# EAGLE library part FT232R (library MrSwirlyEyes)
FT32Rx USB -> Serial Devices [FTDI DEVICES]
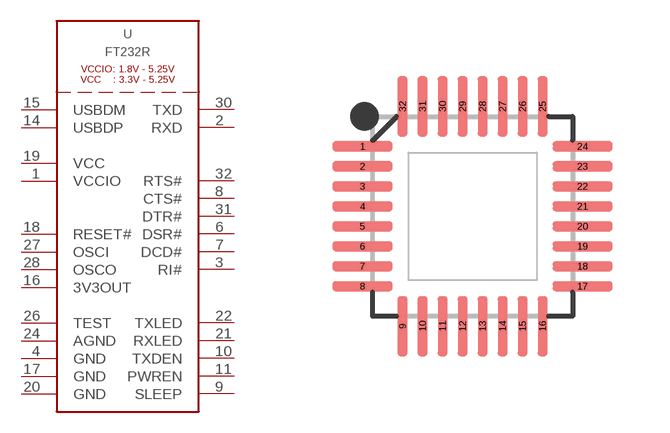
[diagram p16: symbol with the pads of FT232RQ; footprint FT232RQ]

Designator prefix U

## FT232RQ (CREATOR: Kenmei; DATASHEET: http://www.ftdichip.com/Support/Documents/DataSheets/ICs/DS_FT232R.pdf; DIST: Digikey; DISTLINK: https://www.digikey.com/product-detail/en/ftdi-future-technology-devices-international-ltd/FT232RQ-REEL/768-1008-1-ND/1836403; DISTPN: 768-1008-1-ND; MFR: FTDI, Future Technology Devices International Ltd; MPN: FT232RQ-REEL; TESTED: No; VALUE: FTDI)  [FT232RQ]
1  VCCIO
2  RXD
3  RI#
4  GND
6  DSR#
7  DCD#
8  CTS#
9  SLEEP
10  TXDEN
11  PWREN
14  USBDP
15  USBDM
16  3V3OUT
17  GND
18  RESET#
19  VCC
20  GND
21  RXLED
22  TXLED
24  AGND
26  TEST
27  OSCI
28  OSCO
30  TXD
31  DTR#
32  RTS#

## Footprint FT232RQ (pad centres in mm)
smd 1.5 x 0.25: 1 -2.75,1.75; 2 -2.75,1.25; 3 -2.75,0.75; 4 -2.75,0.25; 5 -2.75,-0.25; 6 -2.75,-0.75; 7 -2.75,-1.25; 8 -2.75,-1.75; 17 2.75,-1.75; 18 2.75,-1.25; 19 2.75,-0.75; 20 2.75,-0.25; 21 2.75,0.25; 22 2.75,0.75; 23 2.75,1.25; 24 2.75,1.75
smd 0.25 x 1.5: 9 -1.75,-2.75; 10 -1.25,-2.75; 11 -0.75,-2.75; 12 -0.25,-2.75; 13 0.25,-2.75; 14 0.75,-2.75; 15 1.25,-2.75; 16 1.75,-2.75; 25 1.75,2.75; 26 1.25,2.75; 27 0.75,2.75; 28 0.25,2.75; 29 -0.25,2.75; 30 -0.75,2.75; 31 -1.25,2.75; 32 -1.75,2.75